# EAGLE library part PIC18F67K40 (library 029000100  -  gKEagleLibrary)
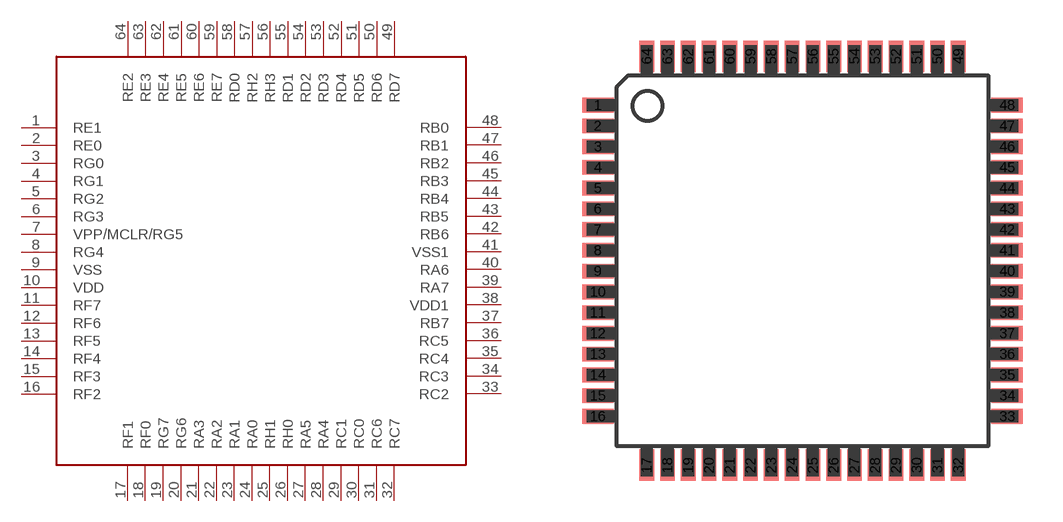
[diagram p47: symbol with the pads of TQFP64; footprint TQFP64]

Designator prefix -

## PIC18F67K40  [TQFP64]
1  RE1
2  RE0
3  RG0
4  RG1
5  RG2
6  RG3
7  VPP/MCLR/RG5
8  RG4
9  VSS  pwr
10  VDD  pwr
11  RF7
12  RF6
13  RF5
14  RF4
15  RF3
16  RF2
17  RF1
18  RF0
19  RG7
20  RG6
21  RA3
22  RA2
23  RA1
24  RA0
25  RH1
26  RH0
27  RA5
28  RA4
29  RC1
30  RC0
31  RC6
32  RC7
33  RC2
34  RC3
35  RC4
36  RC5
37  RB7
38  VDD1  pwr
39  RA7
40  RA6
41  VSS1  pwr
42  RB6
43  RB5
44  RB4
45  RB3
46  RB2
47  RB1
48  RB0
49  RD7
50  RD6
51  RD5
52  RD4
53  RD3
54  RD2
55  RD1
56  RH3
57  RH2
58  RD0
59  RE7
60  RE6
61  RE5
62  RE4
63  RE3
64  RE2

## Footprint TQFP64 (pad centres in mm)
smd 1.194 x 0.559: 1 -21.73,7.176; 2 -21.73,6.388; 3 -21.73,5.601; 4 -21.73,4.813; 5 -21.73,4.026; 6 -21.73,3.239; 7 -21.73,2.451; 8 -21.73,1.664; 9 -21.73,0.876; 10 -21.73,0.089; 11 -21.73,-0.699; 12 -21.73,-1.486; 13 -21.73,-2.273; 14 -21.73,-3.061; 15 -21.73,-3.848; 16 -21.73,-4.636; 33 -6.21,-4.636; 34 -6.21,-3.848; 35 -6.21,-3.061; 36 -6.21,-2.273; 37 -6.21,-1.486; 38 -6.21,-0.699; 39 -6.21,0.089; 40 -6.21,0.876; 41 -6.21,1.664; 42 -6.21,2.451; 43 -6.21,3.239; 44 -6.21,4.026; 45 -6.21,4.813; 46 -6.21,5.601; 47 -6.21,6.388; 48 -6.21,7.176
smd 0.559 x 1.194: 17 -19.875,-6.49; 18 -19.088,-6.49; 19 -18.301,-6.49; 20 -17.513,-6.49; 21 -16.726,-6.49; 22 -15.938,-6.49; 23 -15.151,-6.49; 24 -14.364,-6.49; 25 -13.576,-6.49; 26 -12.789,-6.49; 27 -12.002,-6.49; 28 -11.214,-6.49; 29 -10.427,-6.49; 30 -9.639,-6.49; 31 -8.852,-6.49; 32 -8.065,-6.49; 49 -8.065,9.03; 50 -8.852,9.03; 51 -9.639,9.03; 52 -10.427,9.03; 53 -11.214,9.03; 54 -12.002,9.03; 55 -12.789,9.03; 56 -13.576,9.03; 57 -14.364,9.03; 58 -15.151,9.03; 59 -15.938,9.03; 60 -16.726,9.03; 61 -17.513,9.03; 62 -18.301,9.03; 63 -19.088,9.03; 64 -19.875,9.03